# Altium schematic symbol library C091 connector.SchLib: 2 symbols
Pins are listed as number, name and electrical type; pins without a type are passive.

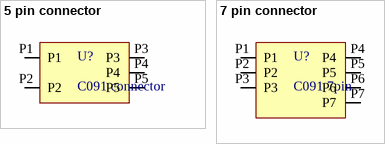
[diagram p0: symbols 5 pin connector to 7 pin connector]

## 5 pin connector
designator U?, comment C091 connector
5 pin connector
footprint C091 Connector
pins: P1 (io), P2 (io), P3 (io), P4 (io), P5 (io)

## 7 pin connector
designator U?, comment C091 7pin
7 pin connector
pins: P1 (io), P2 (io), P3 (io), P4 (io), P5 (io), P6 (io), P7 (io)